# EAGLE library part REF1004U (library burr-brown)
Micropower Voltage Reference
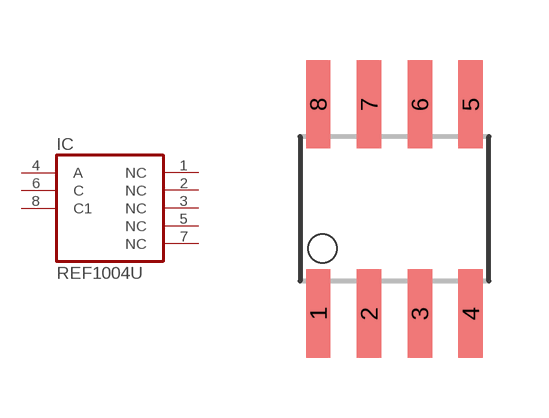
[diagram p182: symbol with the pads of SO-08; footprint SO-08]

Designator prefix IC

## REF1004U  [SO-08]
1  NC  nc
2  NC  nc
3  NC  nc
4  A  pas
5  NC  nc
6  C  pas
7  NC  nc
8  C1  pas

## Footprint SO-08 (pad centres in mm)
smd 0.61 x 2.21: 1 -1.905,-2.616; 2 -0.635,-2.616; 3 0.635,-2.616; 4 1.905,-2.616; 5 1.905,2.616; 6 0.635,2.616; 7 -0.635,2.616; 8 -1.905,2.616